# EAGLE library part HDR-2X30 (library Mechanical)
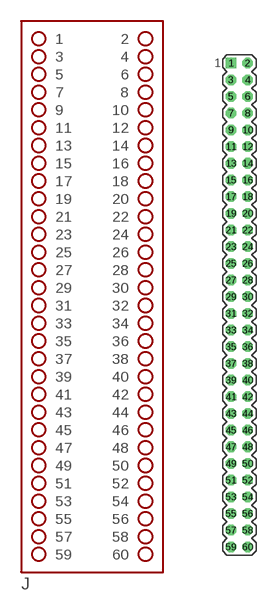
[diagram p58: symbol with the pads of HDR-2X30; footprint HDR-2X30]

Designator prefix J

## HDR-2X30  [HDR-2X30]
1  1  pas
2  2  pas
3  3  pas
4  4  pas
5  5  pas
6  6  pas
7  7  pas
8  8  pas
9  9  pas
10  10  pas
11  11  pas
12  12  pas
13  13  pas
14  14  pas
15  15  pas
16  16  pas
17  17  pas
18  18  pas
19  19  pas
20  20  pas
21  21  pas
22  22  pas
23  23  pas
24  24  pas
25  25  pas
26  26  pas
27  27  pas
28  28  pas
29  29  pas
30  30  pas
31  31  pas
32  32  pas
33  33  pas
34  34  pas
35  35  pas
36  36  pas
37  37  pas
38  38  pas
39  39  pas
40  40  pas
41  41  pas
42  42  pas
43  43  pas
44  44  pas
45  45  pas
46  46  pas
47  47  pas
48  48  pas
49  49  pas
50  50  pas
51  51  pas
52  52  pas
53  53  pas
54  54  pas
55  55  pas
56  56  pas
57  57  pas
58  58  pas
59  59  pas
60  60  pas

## Footprint HDR-2X30 (pad centres in mm)
drill 1.067 square: 1 -1.27,36.83
drill 1.067 octagon: 2 1.27,36.83; 3 -1.27,34.29; 4 1.27,34.29; 5 -1.27,31.75; 6 1.27,31.75; 7 -1.27,29.21; 8 1.27,29.21; 9 -1.27,26.67; 10 1.27,26.67; 11 -1.27,24.13; 12 1.27,24.13; 13 -1.27,21.59; 14 1.27,21.59; 15 -1.27,19.05; 16 1.27,19.05; 17 -1.27,16.51; 18 1.27,16.51; 19 -1.27,13.97; 20 1.27,13.97; 21 -1.27,11.43; 22 1.27,11.43; 23 -1.27,8.89; 24 1.27,8.89; 25 -1.27,6.35; 26 1.27,6.35; 27 -1.27,3.81; 28 1.27,3.81; 29 -1.27,1.27; 30 1.27,1.27; 31 -1.27,-1.27; 32 1.27,-1.27; 33 -1.27,-3.81; 34 1.27,-3.81; 35 -1.27,-6.35; 36 1.27,-6.35; 37 -1.27,-8.89; 38 1.27,-8.89; 39 -1.27,-11.43; 40 1.27,-11.43; 41 -1.27,-13.97; 42 1.27,-13.97; 43 -1.27,-16.51; 44 1.27,-16.51; 45 -1.27,-19.05; 46 1.27,-19.05; 47 -1.27,-21.59; 48 1.27,-21.59; 49 -1.27,-24.13; 50 1.27,-24.13; 51 -1.27,-26.67; 52 1.27,-26.67; 53 -1.27,-29.21; 54 1.27,-29.21; 55 -1.27,-31.75; 56 1.27,-31.75; 57 -1.27,-34.29; 58 1.27,-34.29; 59 -1.27,-36.83; 60 1.27,-36.83